# Altium schematic symbol library LTC4415EDHCPBF.SchLib: 2 symbols
Pins are listed as number, name and electrical type; pins without a type are passive.

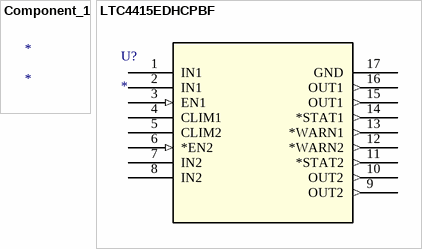
[diagram p0: symbols Component_1 to LTC4415EDHCPBF]

## Component_1
designator *

## LTC4415EDHCPBF
designator U?
No Description Available; Mfr_Name: Analog Devices Inc; Type: Power Management; RefDes: RefDes
footprint 05-08-1872_ADI
pins: 1 IN1 (power), 2 IN1 (power), 3 EN1 (in), 4 CLIM1, 5 CLIM2, 6 *EN2 (in), 7 IN2 (power), 8 IN2 (power), 9 OUT2 (out), 10 OUT2 (out), 11 *STAT2 (out), 12 *WARN2 (out), 13 *WARN1 (out), 14 *STAT1 (out), 15 OUT1 (out), 16 OUT1 (out), 17 GND (power)